# EAGLE library part TPA311 (library Pygmy)
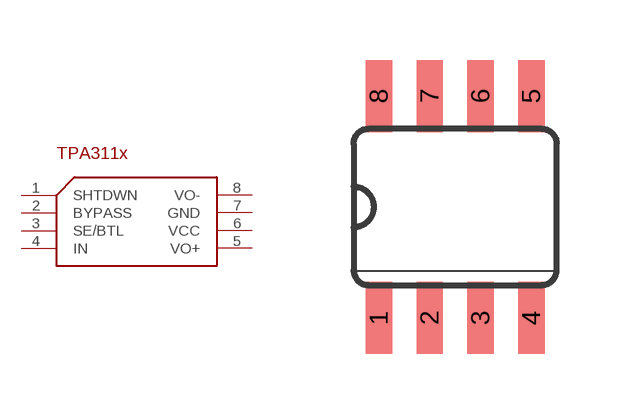
[diagram p40: symbol with the pads of SO08; footprint SO08]

Designator prefix -

## TPA311  [SO08]
1  SHTDWN
2  BYPASS
3  SE/BTL
4  IN
5  VO+
6  VCC
7  GND
8  VO-

## Footprint SO08 (pad centres in mm)
Small Outline package 150 mil
smd 0.66 x 1.8: 1 -1.905,-2.773; 2 -0.635,-2.773; 3 0.635,-2.773; 4 1.905,-2.773; 5 1.905,2.773; 6 0.635,2.773; 7 -0.635,2.773; 8 -1.905,2.773